# Altium schematic symbol library pporyzala-TI_Lighting.SchLib: 745 symbols (part 44 of 48)
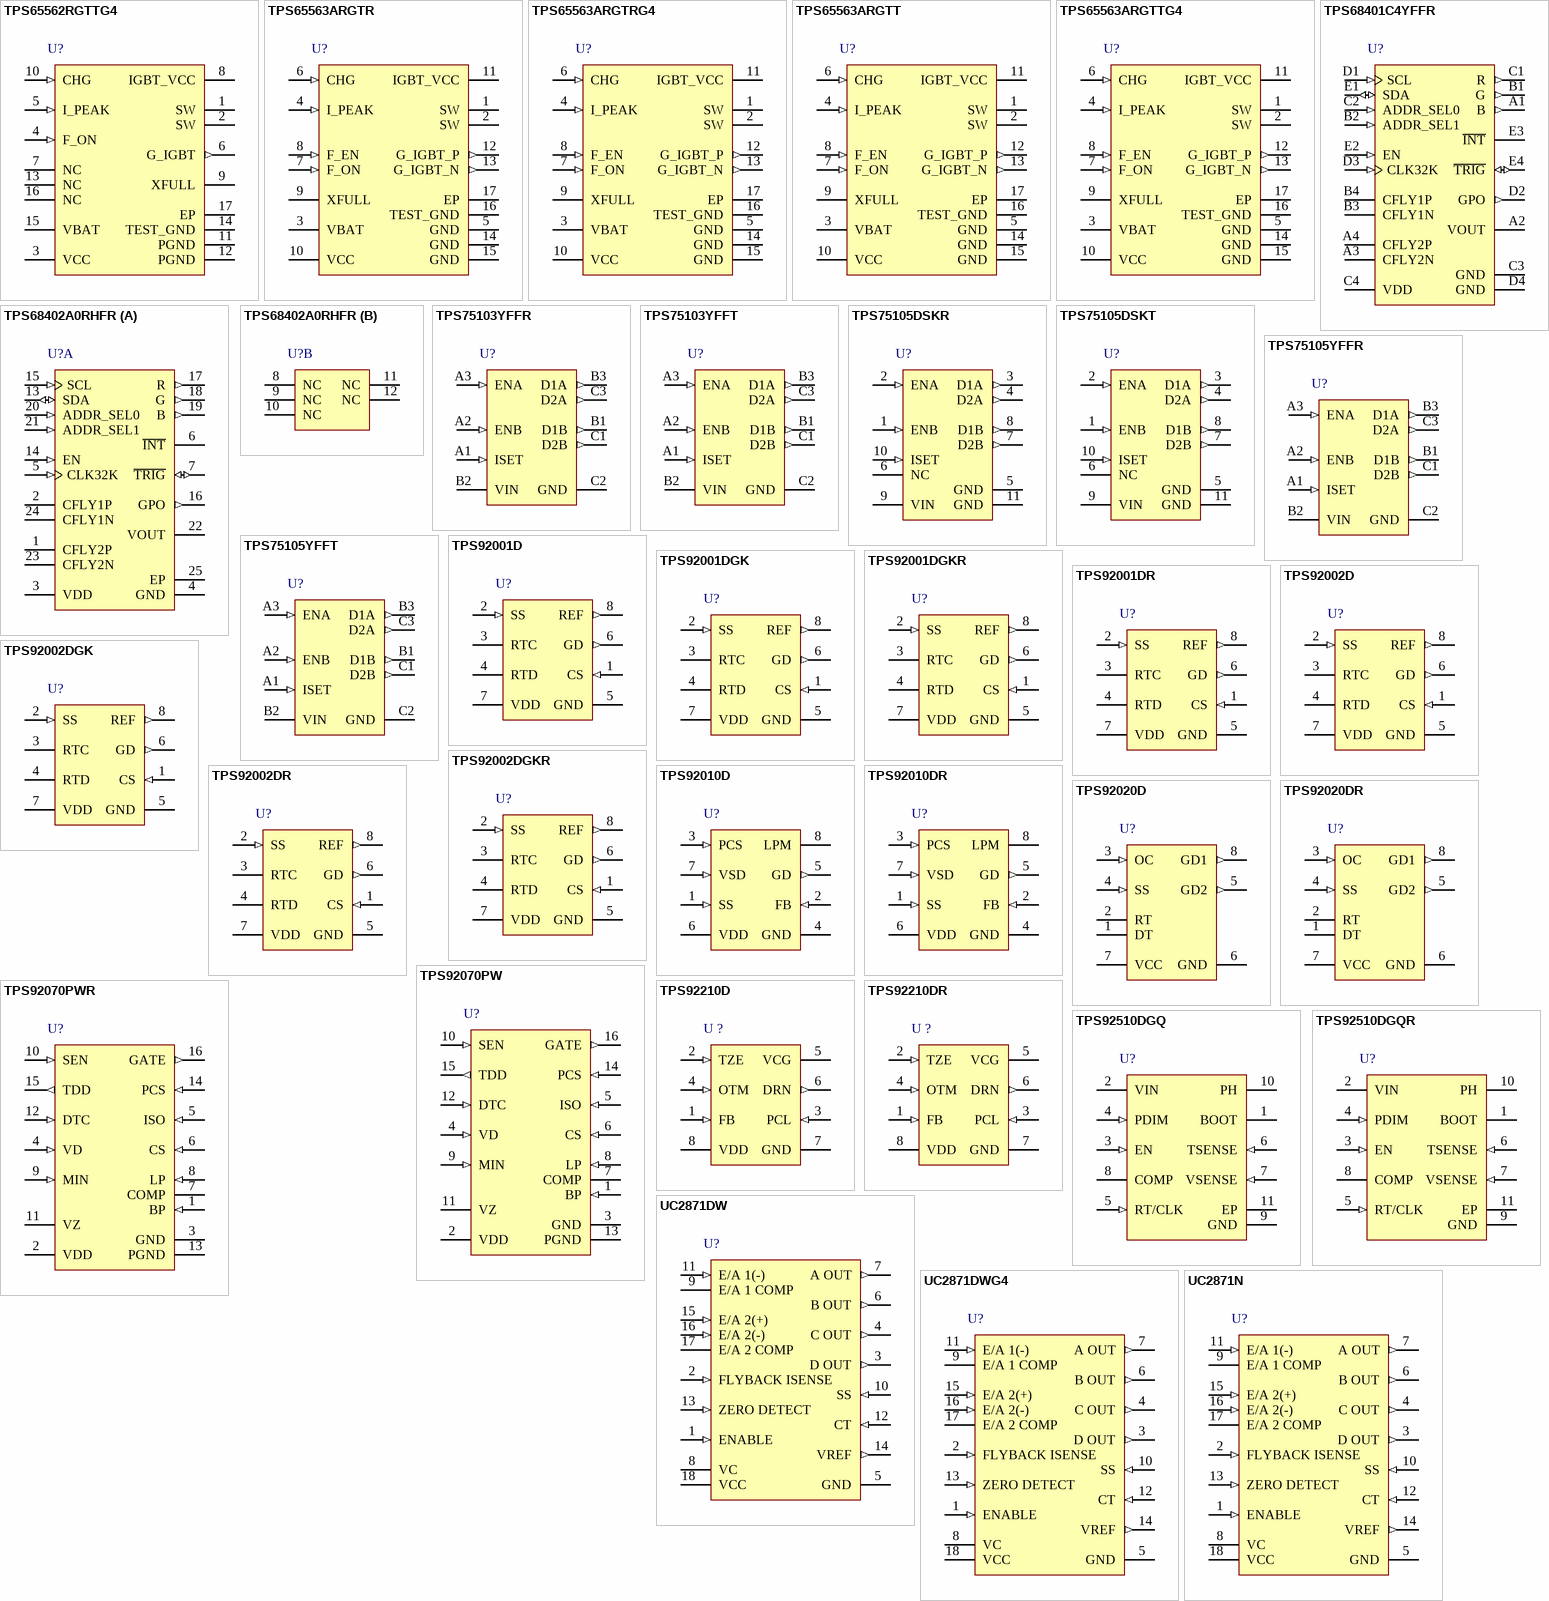
[diagram p74: symbols TPS65562RGTTG4 to UC2871N]

## TPS92002D
designator U?
General Purpose PWM Controller with 15V Turn-on Threshold for LED Lighting, -40 to 85 degC, 8-pin SOIC (D8), Green (RoHS & no Sb/Br); Manufacturer: Texas Instruments; PartNumber: TPS92002D; Frequency(Max)(kHz): 1000; Rating: Catalog; SubFamily: LED Driver, Lighting and Display Solutions, White LED Driver; Topology: Flyback; DatasheetVersion: SLUSA24A; PackageVersion: 4040047-3/M; PackageReference: D8; PackageDescription: 8-Pin Plastic Small Outline, Body 4.9 x 3.9 mm, Pitch 1.27 mm; Supplier 1: Digi-Key; Supplier Part Number 1: TPS92002D-ND; Supplier 2: Newark; Supplier Part Number 2: 72R6686; Supplier 3: Mouser; Supplier Part Number 3: 595-TPS92002D; Eco-Plan: Green (RoHS & no Sb/Br); Mounting Technology: Surface Mount; Code_JEDEC: MS-012; ComponentLink1Description: Manufacturer URL; ComponentLink1URL: http://www.ti.com/; ComponentLink2Description: Datasheet; ComponentLink2URL: http://www.ti.com/general/docs/lit/getliterature.tsp?genericPartNumber=TPS92002&fileType=pdf; ComponentLink3Description: Package Specification; ComponentLink3URL: http://www.ti.com/litv/pdf/msoi002j
footprint TI-D8_N (SOIC, 8-Leads, Body 4.9x3.9mm, Pitch 1.27mm, IPC Medium Density)
footprint TI-D8_L (SOIC, 8-Leads, Body 4.9x3.9mm, Pitch 1.27mm, IPC High Density)
footprint TI-D8_M (SOIC, 8-Leads, Body 4.9x3.9mm, Pitch 1.27mm, IPC Low Density)
pins: 1 CS (in) "This pin is the summing node for current sense feedback, voltage sense feedback (by optocoupler) and slope compensation. Slope compensation is derived from the rising voltage at the timing capacitor and can be buffered with (See Datasheet)", 2 SS (in) "This pin serves two functions. The soft start timing capacitor connects to SS and is charged by an internal 6-uA current source. Under normal soft-start, the SS pin is discharged to at least 0.4 V and then ramps positive to (See Datasheet)", 3 RTC "This pin connects to timing resistor RRTC , and controls the positive ramp (rise) time of the internal oscillator. The positive threshold of the internal oscillator is sensed through inactive timing resistor RRTD which (See Datasheet)", 4 RTD "This pin connects to timing resistor RTD and controls the negative ramp (fall) time of the internal oscillator. The negative threshold of the internal oscillator is sensed through inactive timing resistor RRTC which connects (See Datasheet)", 5 GND (power) "Reference ground and power ground for all functions.", 6 GD (out) "This pin is the high current power driver output. A minimum series gate resistor of 3.9 ohm is recommended to limit the gate drive current when operating with high-bias voltages.", 7 VDD (power) "The power input connection for this device. This pin is shunt regulated at 17.5V which is sufficiently below the voltage rating of the DMOS output driver stage. VDD should be bypassed with a 1-uF ceramic capacitor.", 8 REF (out) "The internal 5-V reference output. This reference is buffered and is available on the REF pin. The REF pin should be bypassed with a 0.47-uF ceramic capacitor to GND."

## TPS92002DGK
designator U?
General Purpose PWM Controller with 15V Turn-on Threshold for LED Lighting, -40 to 85 degC, 8-pin SOP (DGK8), Green (RoHS & no Sb/Br); Manufacturer: Texas Instruments; PartNumber: TPS92002DGK; Frequency(Max)(kHz): 1000; Rating: Catalog; SubFamily: LED Driver, Lighting and Display Solutions, White LED Driver; Topology: Flyback; DatasheetVersion: SLUSA24A; PackageVersion: 4073329/E; PackageReference: DGK8; PackageDescription: 8-Pin Thin Small Outline Package 3 x 3 mm Body ,0.65 mm Pitch; Supplier 1: Digi-Key; Supplier Part Number 1: TPS92002DGK-ND; Supplier 2: Newark; Supplier Part Number 2: 72R6687; Supplier 3: Mouser; Supplier Part Number 3: 595-TPS92002DGK; Eco-Plan: Green (RoHS & no Sb/Br); Mounting Technology: Surface Mount; Code_JEDEC: MO-187; ComponentLink1Description: Manufacturer URL; ComponentLink1URL: http://www.ti.com/; ComponentLink2Description: Datasheet; ComponentLink2URL: http://www.ti.com/general/docs/lit/getliterature.tsp?genericPartNumber=TPS92002&fileType=pdf; ComponentLink3Description: Package Specification; ComponentLink3URL: http://www.ti.com/litv/pdf/mpds028d
footprint TI-DGK8_N (SOP, 8-Leads, Body 3x3mm, Pitch 0.65mm, IPC Medium Density)
footprint TI-DGK8_L (SOP, 8-Leads, Body 3x3mm, Pitch 0.65mm, IPC High Density)
footprint TI-DGK8_M (SOP, 8-Leads, Body 3x3mm, Pitch 0.65mm, IPC Low Density)
pins: 1 CS (in) "This pin is the summing node for current sense feedback, voltage sense feedback (by optocoupler) and slope compensation. Slope compensation is derived from the rising voltage at the timing capacitor and can be buffered CS 1 (See Datasheet)", 2 SS (in) "This pin serves two functions. The soft start timing capacitor connects to SS and is charged by an internal 6-uA current source. Under normal soft-start, the SS pin is discharged to at least 0.4 V and then ramps positive to (See Datasheet)", 3 RTC "This pin connects to timing resistor RRTC , and controls the positive ramp (rise) time of the internal oscillator. The positive threshold of the internal oscillator is sensed through inactive timing resistor RRTD which (See Datasheet)", 4 RTD "This pin connects to timing resistor RTD and controls the negative ramp (fall) time of the internal oscillator . The negative threshold of the internal oscillator is sensed through inactive timing resistor RRTC which (See Datasheet)", 5 GND (power) "Reference ground and power ground for all functions.", 6 GD (out) "This pin is the high current power driver output. A minimum series gate resistor of 3.9 ohm is recommended to limit the gate drive current when operating with high-bias voltages.", 7 VDD (power) "The power input connection for this device. This pin is shunt regulated at 17.5 V which is sufficiently below the voltage rating of the DMOS output driver stage. VDD should be bypassed with a 1-uF ceramic capacitor.", 8 REF (out) "The internal 5-V reference output. This reference is buffered and is available on the REF pin. The REF pin should be bypassed with a 0.47-uF ceramic capacitor to GND."

## TPS92002DGKR
designator U?
General Purpose PWM Controller with 15V Turn-on Threshold for LED Lighting, -40 to 85 degC, 8-pin SOP (DGK8), Green (RoHS & no Sb/Br); Manufacturer: Texas Instruments; PartNumber: TPS92002DGKR; Frequency(Max)(kHz): 1000; Rating: Catalog; SubFamily: LED Driver, Lighting and Display Solutions, White LED Driver; Topology: Flyback; DatasheetVersion: SLUSA24A; PackageVersion: 4073329/E; PackageReference: DGK8; PackageDescription: 8-Pin Thin Small Outline Package 3 x 3 mm Body ,0.65 mm Pitch; Supplier 1: Digi-Key; Supplier Part Number 1: 296-27181-2-ND; Supplier 2: Digi-Key; Supplier Part Number 2: 296-27181-1-ND; Supplier 3: Digi-Key; Supplier Part Number 3: 296-27181-6-ND; Supplier 4: Newark; Supplier Part Number 4: 72R6688; Supplier 5: Mouser; Supplier Part Number 5: 595-TPS92002DGKR; Eco-Plan: Green (RoHS & no Sb/Br); Mounting Technology: Surface Mount; Code_JEDEC: MO-187; ComponentLink1Description: Manufacturer URL; ComponentLink1URL: http://www.ti.com/; ComponentLink2Description: Datasheet; ComponentLink2URL: http://www.ti.com/general/docs/lit/getliterature.tsp?genericPartNumber=TPS92002&fileType=pdf; ComponentLink3Description: Package Specification; ComponentLink3URL: http://www.ti.com/litv/pdf/mpds028d
footprint TI-DGK8_N (SOP, 8-Leads, Body 3x3mm, Pitch 0.65mm, IPC Medium Density)
footprint TI-DGK8_L (SOP, 8-Leads, Body 3x3mm, Pitch 0.65mm, IPC High Density)
footprint TI-DGK8_M (SOP, 8-Leads, Body 3x3mm, Pitch 0.65mm, IPC Low Density)
pins: 1 CS (in) "This pin is the summing node for current sense feedback, voltage sense feedback (by optocoupler) and slope compensation. Slope compensation is derived from the rising voltage at the timing capacitor and can be buffered CS 1 (See Datasheet)", 2 SS (in) "This pin serves two functions. The soft start timing capacitor connects to SS and is charged by an internal 6-uA current source. Under normal soft-start, the SS pin is discharged to at least 0.4 V and then ramps positive to (See Datasheet)", 3 RTC "This pin connects to timing resistor RRTC , and controls the positive ramp (rise) time of the internal oscillator. The positive threshold of the internal oscillator is sensed through inactive timing resistor RRTD which (See Datasheet)", 4 RTD "This pin connects to timing resistor RTD and controls the negative ramp (fall) time of the internal oscillator . The negative threshold of the internal oscillator is sensed through inactive timing resistor RRTC which (See Datasheet)", 5 GND (power) "Reference ground and power ground for all functions.", 6 GD (out) "This pin is the high current power driver output. A minimum series gate resistor of 3.9 ohm is recommended to limit the gate drive current when operating with high-bias voltages.", 7 VDD (power) "The power input connection for this device. This pin is shunt regulated at 17.5 V which is sufficiently below the voltage rating of the DMOS output driver stage. VDD should be bypassed with a 1-uF ceramic capacitor.", 8 REF (out) "The internal 5-V reference output. This reference is buffered and is available on the REF pin. The REF pin should be bypassed with a 0.47-uF ceramic capacitor to GND."

## TPS92002DR
designator U?
General Purpose PWM Controller with 15V Turn-on Threshold for LED Lighting, -40 to 85 degC, 8-pin SOIC (D8), Green (RoHS & no Sb/Br); Manufacturer: Texas Instruments; PartNumber: TPS92002DR; Frequency(Max)(kHz): 1000; Rating: Catalog; SubFamily: LED Driver, Lighting and Display Solutions, White LED Driver; Topology: Flyback; DatasheetVersion: SLUSA24A; PackageVersion: 4040047-3/M; PackageReference: D8; PackageDescription: 8-Pin Plastic Small Outline, Body 4.9 x 3.9 mm, Pitch 1.27 mm; Supplier 1: Digi-Key; Supplier Part Number 1: 296-27182-2-ND; Supplier 2: Digi-Key; Supplier Part Number 2: 296-27182-1-ND; Supplier 3: Digi-Key; Supplier Part Number 3: 296-27182-6-ND; Supplier 4: Mouser; Supplier Part Number 4: 595-TPS92002DR; Eco-Plan: Green (RoHS & no Sb/Br); Mounting Technology: Surface Mount; Code_JEDEC: MS-012; ComponentLink1Description: Manufacturer URL; ComponentLink1URL: http://www.ti.com/; ComponentLink2Description: Datasheet; ComponentLink2URL: http://www.ti.com/general/docs/lit/getliterature.tsp?genericPartNumber=TPS92002&fileType=pdf; ComponentLink3Description: Package Specification; ComponentLink3URL: http://www.ti.com/litv/pdf/msoi002j
footprint TI-D8_N (SOIC, 8-Leads, Body 4.9x3.9mm, Pitch 1.27mm, IPC Medium Density)
footprint TI-D8_L (SOIC, 8-Leads, Body 4.9x3.9mm, Pitch 1.27mm, IPC High Density)
footprint TI-D8_M (SOIC, 8-Leads, Body 4.9x3.9mm, Pitch 1.27mm, IPC Low Density)
pins: 1 CS (in) "This pin is the summing node for current sense feedback, voltage sense feedback (by optocoupler) and slope compensation. Slope compensation is derived from the rising voltage at the timing capacitor and can be buffered with (See Datasheet)", 2 SS (in) "This pin serves two functions. The soft start timing capacitor connects to SS and is charged by an internal 6-uA current source. Under normal soft-start, the SS pin is discharged to at least 0.4 V and then ramps positive to (See Datasheet)", 3 RTC "This pin connects to timing resistor RRTC , and controls the positive ramp (rise) time of the internal oscillator. The positive threshold of the internal oscillator is sensed through inactive timing resistor RRTD which (See Datasheet)", 4 RTD "This pin connects to timing resistor RTD and controls the negative ramp (fall) time of the internal oscillator. The negative threshold of the internal oscillator is sensed through inactive timing resistor RRTC which connects (See Datasheet)", 5 GND (power) "Reference ground and power ground for all functions.", 6 GD (out) "This pin is the high current power driver output. A minimum series gate resistor of 3.9 ohm is recommended to limit the gate drive current when operating with high-bias voltages.", 7 VDD (power) "The power input connection for this device. This pin is shunt regulated at 17.5V which is sufficiently below the voltage rating of the DMOS output driver stage. VDD should be bypassed with a 1-uF ceramic capacitor.", 8 REF (out) "The internal 5-V reference output. This reference is buffered and is available on the REF pin. The REF pin should be bypassed with a 0.47-uF ceramic capacitor to GND."

## TPS92010D
designator U?
Quasi-Resonant Driver Controller for LED Lighting, -40 to 105 degC, 8-pin SOIC (D8), Green (RoHS & no Sb/Br); Manufacturer: Texas Instruments; PartNumber: TPS92010D; Frequency(Max)(kHz): 143; Rating: Catalog; SubFamily: LED Driver, Lighting and Display Solutions, White LED Driver; Topology: Flyback; DatasheetVersion: SLUSA14; PackageVersion: 4040047-3/M; PackageReference: D8; PackageDescription: 8-Pin Plastic Small Outline, Body 4.9 x 3.9 mm, Pitch 1.27 mm; Supplier 1: Digi-Key; Supplier Part Number 1: TPS92010D-ND; Supplier 2: Farnell; Supplier Part Number 2: 1815782; Supplier 3: Newark; Supplier Part Number 3: 69R0456; Supplier 4: Mouser; Supplier Part Number 4: 595-TPS92010D; Eco-Plan: Green (RoHS & no Sb/Br); Mounting Technology: Surface Mount; Code_JEDEC: MS-012; ComponentLink1Description: Manufacturer URL; ComponentLink1URL: http://www.ti.com/; ComponentLink2Description: Datasheet; ComponentLink2URL: http://www.ti.com/general/docs/lit/getliterature.tsp?genericPartNumber=TPS92010&fileType=pdf; ComponentLink3Description: Package Specification; ComponentLink3URL: http://www.ti.com/litv/pdf/msoi002j
footprint TI-D8_N (SOIC, 8-Leads, Body 4.9x3.9mm, Pitch 1.27mm, IPC Medium Density)
footprint TI-D8_L (SOIC, 8-Leads, Body 4.9x3.9mm, Pitch 1.27mm, IPC High Density)
footprint TI-D8_M (SOIC, 8-Leads, Body 4.9x3.9mm, Pitch 1.27mm, IPC Low Density)
pins: 1 SS (in) "Soft-start programming pin. Program the soft-start rate with a capacitor to ground; the rate is determined by the capacitance and the internal soft-start charge current. Placement of the soft-start capacitor is critical and (See Datasheet)", 2 FB (in) "Feedback input or control input from the output sensing network to the PWM comparator used to control the peak current in the power MOSFET. An internal 20 k ohm resistor is between this pin and the internal 5-V regulated (See Datasheet)", 3 PCS (in) "Peak current sense input, also programs power limit and is used to control modulation and activate overcurrent  protection. The PCS voltage input originates across a current sense resistor and ground. Power limit is (See Datasheet)", 4 GND (power) "Ground for internal circuitry. Connect a ceramic 0.1-uF bypass capacitor between VDD and GND, with the capacitor as close to these two pins as possible.", 5 GD (out) "1-A sink (TrueDrive ) and 0.75-A source gate drive output. This output drives the power MOSFET and switches GD between GND and the lower of VDD or the 13-V internal output clamp.", 6 VDD (power) "Provides power to the device. Use a ceramic 0.1-uF by-pass capacitor for high-frequency filtering of the VDD pin,as described in the GND pin description. Operating energy is usually delivered from auxiliary winding. To (See Datasheet)", 7 VSD (in) "The valley switching detect (VSD) pin senses line, load and resonant conditions using the primary bias winding.", 8 LPM (hiz) "The low power mode pin is an ACTIVE HIGH open drain signal that indicates the device has entered low power mode. LPM pin is high during UVLO, (VDD < startup threshold), and softstart, (SS < FB)."

## TPS92010DR
designator U?
Quasi-Resonant Driver Controller for LED Lighting, -40 to 105 degC, 8-pin SOIC (D8), Green (RoHS & no Sb/Br); Manufacturer: Texas Instruments; PartNumber: TPS92010DR; Frequency(Max)(kHz): 143; Rating: Catalog; SubFamily: LED Driver, Lighting and Display Solutions, White LED Driver; Topology: Flyback; DatasheetVersion: SLUSA14; PackageVersion: 4040047-3/M; PackageReference: D8; PackageDescription: 8-Pin Plastic Small Outline, Body 4.9 x 3.9 mm, Pitch 1.27 mm; Supplier 1: Digi-Key; Supplier Part Number 1: 296-25781-2-ND; Supplier 2: Digi-Key; Supplier Part Number 2: 296-25781-1-ND; Supplier 3: Digi-Key; Supplier Part Number 3: 296-25781-6-ND; Supplier 4: Newark; Supplier Part Number 4: 69R0457; Supplier 5: Mouser; Supplier Part Number 5: 595-TPS92010DR; Eco-Plan: Green (RoHS & no Sb/Br); Mounting Technology: Surface Mount; Code_JEDEC: MS-012; ComponentLink1Description: Manufacturer URL; ComponentLink1URL: http://www.ti.com/; ComponentLink2Description: Datasheet; ComponentLink2URL: http://www.ti.com/general/docs/lit/getliterature.tsp?genericPartNumber=TPS92010&fileType=pdf; ComponentLink3Description: Package Specification; ComponentLink3URL: http://www.ti.com/litv/pdf/msoi002j
footprint TI-D8_N (SOIC, 8-Leads, Body 4.9x3.9mm, Pitch 1.27mm, IPC Medium Density)
footprint TI-D8_L (SOIC, 8-Leads, Body 4.9x3.9mm, Pitch 1.27mm, IPC High Density)
footprint TI-D8_M (SOIC, 8-Leads, Body 4.9x3.9mm, Pitch 1.27mm, IPC Low Density)
pins: 1 SS (in) "Soft-start programming pin. Program the soft-start rate with a capacitor to ground; the rate is determined by the capacitance and the internal soft-start charge current. Placement of the soft-start capacitor is critical and (See Datasheet)", 2 FB (in) "Feedback input or control input from the output sensing network to the PWM comparator used to control the peak current in the power MOSFET. An internal 20 k ohm resistor is between this pin and the internal 5-V regulated (See Datasheet)", 3 PCS (in) "Peak current sense input, also programs power limit and is used to control modulation and activate overcurrent  protection. The PCS voltage input originates across a current sense resistor and ground. Power limit is (See Datasheet)", 4 GND (power) "Ground for internal circuitry. Connect a ceramic 0.1-uF bypass capacitor between VDD and GND, with the capacitor as close to these two pins as possible.", 5 GD (out) "1-A sink (TrueDrive ) and 0.75-A source gate drive output. This output drives the power MOSFET and switches GD between GND and the lower of VDD or the 13-V internal output clamp.", 6 VDD (power) "Provides power to the device. Use a ceramic 0.1-uF by-pass capacitor for high-frequency filtering of the VDD pin,as described in the GND pin description. Operating energy is usually delivered from auxiliary winding. To (See Datasheet)", 7 VSD (in) "The valley switching detect (VSD) pin senses line, load and resonant conditions using the primary bias winding.", 8 LPM (hiz) "The low power mode pin is an ACTIVE HIGH open drain signal that indicates the device has entered low power mode. LPM pin is high during UVLO, (VDD < startup threshold), and softstart, (SS < FB)."

## TPS92020D
designator U?
Resonant-Switching Driver Controller for LED Lighting, -40 to 125 degC, 8-pin SOIC (D8), Green (RoHS & no Sb/Br); Manufacturer: Texas Instruments; PartNumber: TPS92020D; SubFamily: Lighting and Display Solutions; DatasheetVersion: SLUSA54; PackageVersion: 4040047-3/M; PackageReference: D8; PackageDescription: 8-Pin Plastic Small Outline, Body 4.9 x 3.9 mm, Pitch 1.27 mm; Supplier 1: Digi-Key; Supplier Part Number 1: 296-34658-5-ND; Supplier 2: Farnell; Supplier Part Number 2: 1855135; Supplier 3: Newark; Supplier Part Number 3: 99R2200; Supplier 4: Mouser; Supplier Part Number 4: 595-TPS92020D; Eco-Plan: Green (RoHS & no Sb/Br); Mounting Technology: Surface Mount; Code_JEDEC: MS-012; ComponentLink1Description: Manufacturer URL; ComponentLink1URL: http://www.ti.com/; ComponentLink2Description: Datasheet; ComponentLink2URL: http://www.ti.com/general/docs/lit/getliterature.tsp?genericPartNumber=TPS92020&fileType=pdf; ComponentLink3Description: Package Specification; ComponentLink3URL: http://www.ti.com/litv/pdf/msoi002j
footprint TI-D8_N (SOIC, 8-Leads, Body 4.9x3.9mm, Pitch 1.27mm, IPC Medium Density)
footprint TI-D8_L (SOIC, 8-Leads, Body 4.9x3.9mm, Pitch 1.27mm, IPC High Density)
footprint TI-D8_M (SOIC, 8-Leads, Body 4.9x3.9mm, Pitch 1.27mm, IPC Low Density)
pins: 1 DT "Sets the dead time of high-side and low-side switch driving signals. Connect a resistor to ground. With internal 2.25-V voltage reference, the current flowing through the resistor sets the dead time. To prevent shoot through (See Datasheet)", 2 RT "The current flowing out of this pin sets the frequency of the gate driver signals. Connect the opto-coupler collector to this pin to control the switching frequency for regulation purpose. Parallel a resistor to ground to (See Datasheet)", 3 OC (in) "Overcurrent protection. When the voltage on this pin is above 1 V, gate driver signals are actively pulled low.After the voltage falls below 0.6 V, the gate driver signal recovers with soft start. When OC pin voltage is (See Datasheet)", 4 SS (in) "Soft-start. This pin sets the soft-start time of the system. Connect a capacitor to ground. Pulling this pin below 1 V disables the device to allow easy ON/OFF control. The soft-start function is enabled after all fault (See Datasheet)", 5 GD2 (out) "High-side and low-side switch gate driver. Connect gate driver transformer primary side to these two pins to drive the half bridge.", 6 GND (power) "Ground.", 7 VCC (power) "Bias supply. Connect this pin to a power supply less than 20 V. Place a 1uF capacitor in parallel to ground to filter out noise.", 8 GD1 (out) "High-side and low-side switch gate driver. Connect gate driver transformer primary side to these two pins to drive the half bridge."

## TPS92020DR
designator U?
Resonant-Switching Driver Controller for LED Lighting, -40 to 125 degC, 8-pin SOIC (D8), Green (RoHS & no Sb/Br); Manufacturer: Texas Instruments; PartNumber: TPS92020DR; SubFamily: Lighting and Display Solutions; DatasheetVersion: SLUSA54; PackageVersion: 4040047-3/M; PackageReference: D8; PackageDescription: 8-Pin Plastic Small Outline, Body 4.9 x 3.9 mm, Pitch 1.27 mm; Supplier 1: Digi-Key; Supplier Part Number 1: 296-27846-2-ND; Supplier 2: Digi-Key; Supplier Part Number 2: 296-27846-1-ND; Supplier 3: Digi-Key; Supplier Part Number 3: 296-27846-6-ND; Supplier 4: Mouser; Supplier Part Number 4: 595-TPS92020DR; Eco-Plan: Green (RoHS & no Sb/Br); Mounting Technology: Surface Mount; Code_JEDEC: MS-012; ComponentLink1Description: Manufacturer URL; ComponentLink1URL: http://www.ti.com/; ComponentLink2Description: Datasheet; ComponentLink2URL: http://www.ti.com/general/docs/lit/getliterature.tsp?genericPartNumber=TPS92020&fileType=pdf; ComponentLink3Description: Package Specification; ComponentLink3URL: http://www.ti.com/litv/pdf/msoi002j
footprint TI-D8_N (SOIC, 8-Leads, Body 4.9x3.9mm, Pitch 1.27mm, IPC Medium Density)
footprint TI-D8_L (SOIC, 8-Leads, Body 4.9x3.9mm, Pitch 1.27mm, IPC High Density)
footprint TI-D8_M (SOIC, 8-Leads, Body 4.9x3.9mm, Pitch 1.27mm, IPC Low Density)
pins: 1 DT "Sets the dead time of high-side and low-side switch driving signals. Connect a resistor to ground. With internal 2.25-V voltage reference, the current flowing through the resistor sets the dead time. To prevent shoot through (See Datasheet)", 2 RT "The current flowing out of this pin sets the frequency of the gate driver signals. Connect the opto-coupler collector to this pin to control the switching frequency for regulation purpose. Parallel a resistor to ground to (See Datasheet)", 3 OC (in) "Overcurrent protection. When the voltage on this pin is above 1 V, gate driver signals are actively pulled low.After the voltage falls below 0.6 V, the gate driver signal recovers with soft start. When OC pin voltage is (See Datasheet)", 4 SS (in) "Soft-start. This pin sets the soft-start time of the system. Connect a capacitor to ground. Pulling this pin below 1 V disables the device to allow easy ON/OFF control. The soft-start function is enabled after all fault (See Datasheet)", 5 GD2 (out) "High-side and low-side switch gate driver. Connect gate driver transformer primary side to these two pins to drive the half bridge.", 6 GND (power) "Ground.", 7 VCC (power) "Bias supply. Connect this pin to a power supply less than 20 V. Place a 1uF capacitor in parallel to ground to filter out noise.", 8 GD1 (out) "High-side and low-side switch gate driver. Connect gate driver transformer primary side to these two pins to drive the half bridge."

## TPS92070PW
designator U?
Dimmable Quasi-Resonant LED Lighting Controller, 9 to 21.5 V, -40 to 140 degC, 16-pin SOP (PW16), Green (RoHS & no Sb/Br); Manufacturer: Texas Instruments; PartNumber: TPS92070PW; Dimming: TRUE; Rating: Catalog; SubFamily: White LED Driver; Topology: Flyback; Vin(Max)(V): 21.5; Vin(Min)(V): 9; DatasheetVersion: SLUSAN1; PackageVersion: 4040064-4/G; PackageReference: PW16; PackageDescription: 16-Pin Plastic Small Outline, Body 4.40 x 5.00 mm, Pitch 0.65 mm; Supplier 1: Digi-Key; Supplier Part Number 1: 296-34659-5-ND; Supplier 2: Farnell; Supplier Part Number 2: 2061814; Supplier 3: Newark; Supplier Part Number 3: 64T4269; Supplier 4: Mouser; Supplier Part Number 4: 595-TPS92070PW; Eco-Plan: Green (RoHS & no Sb/Br); Mounting Technology: Surface Mount; Code_JEDEC: MO-153; ComponentLink1Description: Manufacturer URL; ComponentLink1URL: http://www.ti.com/; ComponentLink2Description: Datasheet; ComponentLink2URL: http://www.ti.com/general/docs/lit/getliterature.tsp?genericPartNumber=TPS92070&fileType=pdf; ComponentLink3Description: Package Specification; ComponentLink3URL: http://www.ti.com/lit/ml/mpds361/mpds361.pdf
footprint TI-PW16_N (SOP, 16-Leads, Body 5x4.4mm, Pitch 0.65mm, IPC Medium Density)
footprint TI-PW16_L (SOP, 16-Leads, Body 5x4.4mm, Pitch 0.65mm, IPC High Density)
footprint TI-PW16_M (SOP, 16-Leads, Body 5x4.4mm, Pitch 0.65mm, IPC Low Density)
pins: 1 BP (in) "Connect a 1-uF ceramic capacitor to GND to bypass the internal voltage regulator.", 2 VDD (power) "Provides power to the device. Connect a bypass capacitor directly to GND.", 3 GND (power) "Ground for internal circuitry", 4 VD (in) "Valley detect input. Connect to the Aux winding through a resistor divider.", 5 ISO (in) "Inverting input of secondary side current sense comparator and isolation transformer buffer. Connect to GND for non-isolated applications.", 6 CS (in) "LED current sense feedback and positive input terminal of the error amplifier.", 7 COMP "Loop compensation output. Connect the loop compensation components between this pin and GND", 8 LP (in) "Pole for DTC low pass filter. Connect a capacitor to GND to set the response time of the dimming level detection circuit.", 9 MIN (in) "Minimum current programming input. Connect a resistor to GND to set the minimum LED current.", 10 SEN (in) "Dimmer sense input. An internal window comparator continuously monitors this pin to determine the dimmer setting.", 11 VZ (power) "Voltage clamp. This pin clamps the maximum voltage on the gate of the external HV DTC N-channel MOSFET.", 12 DTC (in) "Dimmer trigger control input. Connect this pin to thesource of the HV N-channel MOSFET cascode device of the DTC circuit.", 13 PGND (power) "Power ground for GATE Driver. Connected to GND", 14 PCS (in) "Primary current sense input. Connected to shunt resistor for primary side current sense.", 15 TDD (out) "TRIAC dimmer detect. Drives bypass FET in Valley Fill PFC when dimmer is detected. For non PFC applications, leave this pin open", 16 GATE (out) "PWM drive signal output. Connect to flyback power MOSFET."

## TPS92070PWR
designator U?
Dimmable Quasi-Resonant LED Lighting Controller, 9 to 21.5 V, -40 to 140 degC, 16-pin SOP (PW16), Green (RoHS & no Sb/Br); Manufacturer: Texas Instruments; PartNumber: TPS92070PWR; Dimming: TRUE; Rating: Catalog; SubFamily: White LED Driver; Topology: Flyback; Vin(Max)(V): 21.5; Vin(Min)(V): 9; DatasheetVersion: SLUSAN1; PackageVersion: 4040064-4/G; PackageReference: PW16; PackageDescription: 16-Pin Plastic Small Outline, Body 4.40 x 5.00 mm, Pitch 0.65 mm; Supplier 1: Digi-Key; Supplier Part Number 1: 296-29546-2-ND; Supplier 2: Digi-Key; Supplier Part Number 2: 296-29546-1-ND; Supplier 3: Digi-Key; Supplier Part Number 3: 296-29546-6-ND; Supplier 4: Newark; Supplier Part Number 4: 64T4270; Supplier 5: Mouser; Supplier Part Number 5: 595-TPS92070PWR; Eco-Plan: Green (RoHS & no Sb/Br); Mounting Technology: Surface Mount; Code_JEDEC: MO-153; ComponentLink1Description: Manufacturer URL; ComponentLink1URL: http://www.ti.com/; ComponentLink2Description: Datasheet; ComponentLink2URL: http://www.ti.com/general/docs/lit/getliterature.tsp?genericPartNumber=TPS92070&fileType=pdf; ComponentLink3Description: Package Specification; ComponentLink3URL: http://www.ti.com/lit/ml/mpds361/mpds361.pdf
footprint TI-PW16_N (SOP, 16-Leads, Body 5x4.4mm, Pitch 0.65mm, IPC Medium Density)
footprint TI-PW16_L (SOP, 16-Leads, Body 5x4.4mm, Pitch 0.65mm, IPC High Density)
footprint TI-PW16_M (SOP, 16-Leads, Body 5x4.4mm, Pitch 0.65mm, IPC Low Density)
pins: 1 BP (in) "Connect a 1-uF ceramic capacitor to GND to bypass the internal voltage regulator.", 2 VDD (power) "Provides power to the device. Connect a bypass capacitor directly to GND.", 3 GND (power) "Ground for internal circuitry", 4 VD (in) "Valley detect input. Connect to the Aux winding through a resistor divider.", 5 ISO (in) "Inverting input of secondary side current sense comparator and isolation transformer buffer. Connect to GND for non-isolated applications.", 6 CS (in) "LED current sense feedback and positive input terminal of the error amplifier.", 7 COMP "Loop compensation output. Connect the loop compensation components between this pin and GND", 8 LP (in) "Pole for DTC low pass filter. Connect a capacitor to GND to set the response time of the dimming level detection circuit.", 9 MIN (in) "Minimum current programming input. Connect a resistor to GND to set the minimum LED current.", 10 SEN (in) "Dimmer sense input. An internal window comparator continuously monitors this pin to determine the dimmer setting.", 11 VZ (power) "Voltage clamp. This pin clamps the maximum voltage on the gate of the external HV DTC N-channel MOSFET.", 12 DTC (in) "Dimmer trigger control input. Connect this pin to thesource of the HV N-channel MOSFET cascode device of the DTC circuit.", 13 PGND (power) "Power ground for GATE Driver. Connected to GND", 14 PCS (in) "Primary current sense input. Connected to shunt resistor for primary side current sense.", 15 TDD (out) "TRIAC dimmer detect. Drives bypass FET in Valley Fill PFC when dimmer is detected. For non PFC applications, leave this pin open", 16 GATE (out) "PWM drive signal output. Connect to flyback power MOSFET."

## TPS92210D
designator U ?
Constant-On Time Driver Controller with Cascoded MOSFET for LED Lighting, 9 to 20 V, -40 to 125 degC, 8-pin SOIC (D8), Green (RoHS & no Sb/Br); Manufacturer: Texas Instruments; PartNumber: TPS92210D; Frequency(Max)(kHz): 130; Rating: Catalog; SubFamily: LED Driver, Lighting and Display Solutions, White LED Driver; Topology: Flyback; DatasheetVersion: SLUS989A; PackageVersion: 4040047-3/M; PackageReference: D8; PackageDescription: 8-Pin Plastic Small Outline, Body 4.9 x 3.9 mm, Pitch 1.27 mm; Supplier 1: Digi-Key; Supplier Part Number 1: 296-34660-5-ND; Supplier 2: Farnell; Supplier Part Number 2: 1864822; Supplier 3: Newark; Supplier Part Number 3: 69R0458; Supplier 4: Mouser; Supplier Part Number 4: 595-TPS92210D; Eco-Plan: Green (RoHS & no Sb/Br); Mounting Technology: Surface Mount; Code_JEDEC: MS-012; ComponentLink1Description: Manufacturer URL; ComponentLink1URL: http://www.ti.com/; ComponentLink2Description: Datasheet; ComponentLink2URL: http://www.ti.com/general/docs/lit/getliterature.tsp?genericPartNumber=TPS92210&fileType=pdf; ComponentLink3Description: Package Specification; ComponentLink3URL: http://www.ti.com/litv/pdf/msoi002j
footprint TI-D8_N (SOIC, 8-Leads, Body 4.9x3.9mm, Pitch 1.27mm, IPC Medium Density)
footprint TI-D8_L (SOIC, 8-Leads, Body 4.9x3.9mm, Pitch 1.27mm, IPC High Density)
footprint TI-D8_M (SOIC, 8-Leads, Body 4.9x3.9mm, Pitch 1.27mm, IPC Low Density)
pins: 1 FB (in) "The FB pin is regulated at 0.7 V and only detects current input (FB current,IFB) which commands the operating mode of TPS92210. For peak-current mode control, this pin is connected to the emitter of the feedback opto coupler.(See Datasheet)", 2 TZE (in) "A resistive divider between the primary-side auxiliary winding and this pin is used to detect when the transformer is demagnetized resulting in transformer zero energy. The ratio of the resistive divider at this pin can also (See Datasheet)", 3 PCL (in) "The PCL pin programs the peak primary inductor current that is reached each switching cycle. The primary current is sensed with the RDS(on) of the internal MOSFET and is programmed by setting a threshold by connecting a low (See Datasheet)", 4 OTM (in) "the OTM pin is internally regulated at 3 V and used to program the on-time of the cascode (flyback) switch by connecting a resistor (ROTM) from this pin to the quiet return of GND. The collector of the opto-coupler is (See Datasheet)", 5 VCG "The VCG pin provides the bias voltage for the gate of the cascode MOSFET. Place a 0.1-µF ceramic capacitorbetween VCG and GND, as close as possible to the high-voltage MOSFET. This pin also provides start-up biasthrough a (See Datasheet)", 6 DRN (out) "The DRN pin is the drain of the internal low voltage power MOSFET of the TPS92210 and carries the peak primary inductor current, IPEAK(pri). Connect this pin to the source of the external cascode power MOSFET. A schottky (See Datasheet)", 7 GND (power) "This GND pin is the current return terminal for both the analog and power signals in the TPS92210. This terminal carries the full drain current, IDRN, which is equal to the peak primary current, IPEAK(pri), in addition to (See Datasheet)", 8 VDD (power) "VDD is the bias supply pin for the TPS92210. It can be derived from an external source, or an auxiliary winding.Place a 0.1-μF ceramic capacitor between VDD and GND, as close to the device as possible. This pin also enables (See Datasheet)"

## TPS92210DR
designator U ?
Constant-On Time Driver Controller with Cascoded MOSFET for LED Lighting, 9 to 20 V, -40 to 125 degC, 8-pin SOIC (D8), Green (RoHS & no Sb/Br); Manufacturer: Texas Instruments; PartNumber: TPS92210DR; Frequency(Max)(kHz): 130; Rating: Catalog; SubFamily: LED Driver, Lighting and Display Solutions, White LED Driver; Topology: Flyback; DatasheetVersion: SLUS989A; PackageVersion: 4040047-3/M; PackageReference: D8; PackageDescription: 8-Pin Plastic Small Outline, Body 4.9 x 3.9 mm, Pitch 1.27 mm; Supplier 1: Digi-Key; Supplier Part Number 1: 296-25782-2-ND; Supplier 2: Digi-Key; Supplier Part Number 2: 296-25782-1-ND; Supplier 3: Digi-Key; Supplier Part Number 3: 296-25782-6-ND; Supplier 4: Newark; Supplier Part Number 4: 69R0459; Supplier 5: Mouser; Supplier Part Number 5: 595-TPS92210DR; Eco-Plan: Green (RoHS & no Sb/Br); Mounting Technology: Surface Mount; Code_JEDEC: MS-012; ComponentLink1Description: Manufacturer URL; ComponentLink1URL: http://www.ti.com/; ComponentLink2Description: Datasheet; ComponentLink2URL: http://www.ti.com/general/docs/lit/getliterature.tsp?genericPartNumber=TPS92210&fileType=pdf; ComponentLink3Description: Package Specification; ComponentLink3URL: http://www.ti.com/litv/pdf/msoi002j
footprint TI-D8_N (SOIC, 8-Leads, Body 4.9x3.9mm, Pitch 1.27mm, IPC Medium Density)
footprint TI-D8_L (SOIC, 8-Leads, Body 4.9x3.9mm, Pitch 1.27mm, IPC High Density)
footprint TI-D8_M (SOIC, 8-Leads, Body 4.9x3.9mm, Pitch 1.27mm, IPC Low Density)
pins: 1 FB (in) "The FB pin is regulated at 0.7 V and only detects current input (FB current,IFB) which commands the operating mode of TPS92210. For peak-current mode control, this pin is connected to the emitter of the feedback opto coupler.(See Datasheet)", 2 TZE (in) "A resistive divider between the primary-side auxiliary winding and this pin is used to detect when the transformer is demagnetized resulting in transformer zero energy. The ratio of the resistive divider at this pin can also (See Datasheet)", 3 PCL (in) "The PCL pin programs the peak primary inductor current that is reached each switching cycle. The primary current is sensed with the RDS(on) of the internal MOSFET and is programmed by setting a threshold by connecting a low (See Datasheet)", 4 OTM (in) "the OTM pin is internally regulated at 3 V and used to program the on-time of the cascode (flyback) switch by connecting a resistor (ROTM) from this pin to the quiet return of GND. The collector of the opto-coupler is (See Datasheet)", 5 VCG "The VCG pin provides the bias voltage for the gate of the cascode MOSFET. Place a 0.1-µF ceramic capacitorbetween VCG and GND, as close as possible to the high-voltage MOSFET. This pin also provides start-up biasthrough a (See Datasheet)", 6 DRN (out) "The DRN pin is the drain of the internal low voltage power MOSFET of the TPS92210 and carries the peak primary inductor current, IPEAK(pri). Connect this pin to the source of the external cascode power MOSFET. A schottky (See Datasheet)", 7 GND (power) "This GND pin is the current return terminal for both the analog and power signals in the TPS92210. This terminal carries the full drain current, IDRN, which is equal to the peak primary current, IPEAK(pri), in addition to (See Datasheet)", 8 VDD (power) "VDD is the bias supply pin for the TPS92210. It can be derived from an external source, or an auxiliary winding.Place a 0.1-μF ceramic capacitor between VDD and GND, as close to the device as possible. This pin also enables (See Datasheet)"

## TPS92510DGQ
designator U?
1.5 A Constant Current Buck Converter for HB LEDs, 3.5 to 60 V, -40 to 150 degC, 10-pin SOP (DGQ10), Green (RoHS & no Sb/Br); Manufacturer: Texas Instruments; PartNumber: TPS92510DGQ; Iout(Max)(A): 1.5; Rating: Catalog; SubFamily: White LED Driver; Switching Frequency(Typ)(kHz): 581; Vin(Max)(V): 60; Vin(Min)(V): 3.5; DatasheetVersion: SLUSAE4A; PackageVersion: 4073273/F; PackageReference: DGQ10-1830X1600TP; PackageDescription: 10-Lead, Plastic Small Outline, Body Size 3 x 3 mm, Pitch 0.5 mm; Supplier 1: Digi-Key; Supplier Part Number 1: 296-35058-5-ND; Supplier 2: Newark; Supplier Part Number 2: 47W7953; Supplier 3: Mouser; Supplier Part Number 3: 595-TPS92510DGQ; Eco-Plan: Green (RoHS & no Sb/Br); Topology: Buck; Mounting Technology: Surface Mount; Code_JEDEC: MO-187; ComponentLink1Description: Manufacturer URL; ComponentLink1URL: http://www.ti.com/; ComponentLink2Description: Datasheet; ComponentLink2URL: http://www.ti.com/general/docs/lit/getliterature.tsp?genericPartNumber=TPS92510&fileType=pdf; ComponentLink3Description: Package Specification; ComponentLink3URL: http://www.ti.com/litv/pdf/mpds043e
footprint TI-DGQ10-1830X1600TP_N (SOP, 10-Leads, Body 3x3mm, Pitch 0.5mm, Thermal Pad 1.83x1.6mm, IPC Medium Density)
footprint TI-DGQ10-1830X1600TP_L (SOP, 10-Leads, Body 3x3mm, Pitch 0.5mm, Thermal Pad 1.83x1.6mm, IPC High Density)
footprint TI-DGQ10-1830X1600TP_M (SOP, 10-Leads, Body 3x3mm, Pitch 0.5mm, Thermal Pad 1.83x1.6mm, IPC Low Density)
pins: 1 BOOT "A bootstrap capacitor is required between BOOT and PH. If the voltage on this capacitor is below the minimum required by the output device, the output is forced to switch off until the capacitor is refreshed.", 2 VIN (power) "Input supply voltage, 3.5 V to 60 V.", 3 EN (in) "Enable pin, internal pull-up current source. Pull below 1.2-V to disable. Float to enable. Adjust the input undervoltage lockout with two resistors.", 4 PDIM (in) "PWM dimming input pin. The duty cycle of the PWM signal linearly controls the average current output of the converter.", 5 RT/CLK (in) "Resistor timing and external clock. An internal amplifier holds this pin at a fixed voltage when using an external resistor to ground to program the switching frequency. If the pin is pulled above the PLL upper RT/CLK 5 I (See Datasheet)", 6 TSENSE (in) "Temperature fold-back pin. An NTC thermistor connected from this pin to ground provides a thermal feedback to decrease the average LED current as the sensed LED temperature increases. It is recommended to bypass this pin (See Datasheet)", 7 VSENSE (in) "Inverting node of the transconductance (gM) error amplifier.", 8 COMP "Error amplifier output, and input to the output switch current comparator. Connect frequency compensation components to this pin.", 9 GND (power) "Ground", 10 PH (power) "The source of the internal high-side MOSFET.", 11 EP (power) "GND pin must be electrically connected to the exposed pad on the printed circuit board for proper operation."

## TPS92510DGQR
designator U?
1.5 A Constant Current Buck Converter for HB LEDs, 3.5 to 60 V, -40 to 150 degC, 10-pin SOP (DGQ10), Green (RoHS & no Sb/Br); Manufacturer: Texas Instruments; PartNumber: TPS92510DGQR; Iout(Max)(A): 1.5; Rating: Catalog; SubFamily: White LED Driver; Switching Frequency(Typ)(kHz): 581; Vin(Max)(V): 60; Vin(Min)(V): 3.5; DatasheetVersion: SLUSAE4A; PackageVersion: 4073273/F; PackageReference: DGQ10-1830X1600TP; PackageDescription: 10-Lead, Plastic Small Outline, Body Size 3 x 3 mm, Pitch 0.5 mm; Supplier 1: Digi-Key; Supplier Part Number 1: 296-35055-2-ND; Supplier 2: Digi-Key; Supplier Part Number 2: 296-35055-1-ND; Supplier 3: Digi-Key; Supplier Part Number 3: 296-35055-6-ND; Supplier 4: Newark; Supplier Part Number 4: 47W7954; Supplier 5: Mouser; Supplier Part Number 5: 595-TPS92510DGQR; Eco-Plan: Green (RoHS & no Sb/Br); Topology: Buck; Mounting Technology: Surface Mount; Code_JEDEC: MO-187; ComponentLink1Description: Manufacturer URL; ComponentLink1URL: http://www.ti.com/; ComponentLink2Description: Datasheet; ComponentLink2URL: http://www.ti.com/general/docs/lit/getliterature.tsp?genericPartNumber=TPS92510&fileType=pdf; ComponentLink3Description: Package Specification; ComponentLink3URL: http://www.ti.com/litv/pdf/mpds043e
footprint TI-DGQ10-1830X1600TP_N (SOP, 10-Leads, Body 3x3mm, Pitch 0.5mm, Thermal Pad 1.83x1.6mm, IPC Medium Density)
footprint TI-DGQ10-1830X1600TP_L (SOP, 10-Leads, Body 3x3mm, Pitch 0.5mm, Thermal Pad 1.83x1.6mm, IPC High Density)
footprint TI-DGQ10-1830X1600TP_M (SOP, 10-Leads, Body 3x3mm, Pitch 0.5mm, Thermal Pad 1.83x1.6mm, IPC Low Density)
pins: 1 BOOT "A bootstrap capacitor is required between BOOT and PH. If the voltage on this capacitor is below the minimum required by the output device, the output is forced to switch off until the capacitor is refreshed.", 2 VIN (power) "Input supply voltage, 3.5 V to 60 V.", 3 EN (in) "Enable pin, internal pull-up current source. Pull below 1.2-V to disable. Float to enable. Adjust the input undervoltage lockout with two resistors.", 4 PDIM (in) "PWM dimming input pin. The duty cycle of the PWM signal linearly controls the average current output of the converter.", 5 RT/CLK (in) "Resistor timing and external clock. An internal amplifier holds this pin at a fixed voltage when using an external resistor to ground to program the switching frequency. If the pin is pulled above the PLL upper RT/CLK 5 I (See Datasheet)", 6 TSENSE (in) "Temperature fold-back pin. An NTC thermistor connected from this pin to ground provides a thermal feedback to decrease the average LED current as the sensed LED temperature increases. It is recommended to bypass this pin (See Datasheet)", 7 VSENSE (in) "Inverting node of the transconductance (gM) error amplifier.", 8 COMP "Error amplifier output, and input to the output switch current comparator. Connect frequency compensation components to this pin.", 9 GND (power) "Ground", 10 PH (power) "The source of the internal high-side MOSFET.", 11 EP (power) "GND pin must be electrically connected to the exposed pad on the printed circuit board for proper operation."

## UC2871DW
designator U?
Resonant Fluorescent Lamp Driver, 4.5 to 20 V, -40 to 85 degC, 18-pin SOIC (DW18), Green (RoHS & no Sb/Br); Manufacturer: Texas Instruments; PartNumber: UC2871DW; Control Topology: Push-Pull; Frequency(Max)(kHz): 200; Open Lamp Detect: TRUE; Rating: Catalog; SubFamily: CCFL Backlight Converter; Vin(Max)(V): 20; Vin(Min)(V): 4.5; PackageVersion: 4040000-3/G; PackageReference: DW18; PackageDescription: 18-Pin Plastic Small Outline, Body 11.55 x 7.5 mm, Pitch 1.27 mm; Supplier 1: Digi-Key; Supplier Part Number 1: 296-34727-5-ND; Supplier 2: Newark; Supplier Part Number 2: 77C3054; Supplier 3: Mouser; Supplier Part Number 3: 595-UC2871DW; Eco-Plan: Green (RoHS & no Sb/Br); Mounting Technology: Surface Mount; Code_JEDEC: MS-013; ComponentLink1Description: Manufacturer URL; ComponentLink1URL: http://www.ti.com/; ComponentLink2Description: Datasheet; ComponentLink2URL: http://www.ti.com/general/docs/lit/getliterature.tsp?genericPartNumber=UC2871&fileType=pdf; ComponentLink3Description: Package Specification; ComponentLink3URL: http://www.ti.com/lit/ml/mpds172a/mpds172a.pdf
footprint TI-DW18_N (SOIC, 18-Leads, Body 11.55x7.5mm, Pitch 1.27mm, IPC Medium Density)
footprint TI-DW18_L (SOIC, 18-Leads, Body 11.55x7.5mm, Pitch 1.27mm, IPC High Density)
footprint TI-DW18_M (SOIC, 18-Leads, Body 11.55x7.5mm, Pitch 1.27mm, IPC Low Density)
pins: 1 ENABLE (in), 2 FLYBACK ISENSE (in), 3 D OUT (out), 4 C OUT (out), 5 GND (power), 6 B OUT (out), 7 A OUT (out), 8 VC (power), 9 E/A 1 COMP, 10 SS (in), 11 E/A 1(-) (in), 12 CT (in), 13 ZERO DETECT (in), 14 VREF (out), 15 E/A 2(+) (in), 16 E/A 2(-) (in), 17 E/A 2 COMP, 18 VCC (power)

## UC2871DWG4
designator U?
Resonant Fluorescent Lamp Driver, 4.5 to 20 V, -40 to 85 degC, 18-pin SOIC (DW18), Green (RoHS & no Sb/Br); Manufacturer: Texas Instruments; PartNumber: UC2871DWG4; Control Topology: Push-Pull; Frequency(Max)(kHz): 200; Open Lamp Detect: TRUE; Rating: Catalog; SubFamily: CCFL Backlight Converter; Vin(Max)(V): 20; Vin(Min)(V): 4.5; PackageVersion: 4040000-3/G; PackageReference: DW18; PackageDescription: 18-Pin Plastic Small Outline, Body 11.55 x 7.5 mm, Pitch 1.27 mm; Supplier 1: Digi-Key; Supplier Part Number 1: UC2871DWG4-ND; Supplier 2: Newark; Supplier Part Number 2: 66K4910; Supplier 3: Mouser; Supplier Part Number 3: 595-UC2871DWG4; Eco-Plan: Green (RoHS & no Sb/Br); Mounting Technology: Surface Mount; Code_JEDEC: MS-013; ComponentLink1Description: Manufacturer URL; ComponentLink1URL: http://www.ti.com/; ComponentLink2Description: Datasheet; ComponentLink2URL: http://www.ti.com/general/docs/lit/getliterature.tsp?genericPartNumber=UC2871&fileType=pdf; ComponentLink3Description: Package Specification; ComponentLink3URL: http://www.ti.com/lit/ml/mpds172a/mpds172a.pdf
footprint TI-DW18_N (SOIC, 18-Leads, Body 11.55x7.5mm, Pitch 1.27mm, IPC Medium Density)
footprint TI-DW18_L (SOIC, 18-Leads, Body 11.55x7.5mm, Pitch 1.27mm, IPC High Density)
footprint TI-DW18_M (SOIC, 18-Leads, Body 11.55x7.5mm, Pitch 1.27mm, IPC Low Density)
pins: 1 ENABLE (in), 2 FLYBACK ISENSE (in), 3 D OUT (out), 4 C OUT (out), 5 GND (power), 6 B OUT (out), 7 A OUT (out), 8 VC (power), 9 E/A 1 COMP, 10 SS (in), 11 E/A 1(-) (in), 12 CT (in), 13 ZERO DETECT (in), 14 VREF (out), 15 E/A 2(+) (in), 16 E/A 2(-) (in), 17 E/A 2 COMP, 18 VCC (power)

## UC2871N
designator U?
Resonant Fluorescent Lamp Driver, 4.5 to 20 V, -40 to 85 degC, 18-pin DIP (N18), Green (RoHS & no Sb/Br); Manufacturer: Texas Instruments; PartNumber: UC2871N; Control Topology: Push-Pull; Frequency(Max)(kHz): 200; Open Lamp Detect: TRUE; Rating: Catalog; SubFamily: CCFL Backlight Converter; Vin(Max)(V): 20; Vin(Min)(V): 4.5; PackageVersion: 4040049/E; PackageReference: N18; PackageDescription: 18-Pin Plastic In-Line, Body 22.48 x 6.35 mm, Pitch 2.54 mm; Supplier 1: Digi-Key; Supplier Part Number 1: UC2871N-ND; Supplier 2: Newark; Supplier Part Number 2: 77C3056; Supplier 3: Mouser; Supplier Part Number 3: 595-UC2871N; Eco-Plan: Green (RoHS & no Sb/Br); Mounting Technology: Through Hole; Code_JEDEC: MS-001; ComponentLink1Description: Manufacturer URL; ComponentLink1URL: http://www.ti.com/; ComponentLink2Description: Datasheet; ComponentLink2URL: http://www.ti.com/general/docs/lit/getliterature.tsp?genericPartNumber=UC2871&fileType=pdf; ComponentLink3Description: Package Specification; ComponentLink3URL: http://www.ti.com/lit/ml/mpdi002c/mpdi002c.pdf
footprint TI-N18 (DIP, 18-Leads, Body 22.48x6.35 mm, Pitch 2.54 mm)
pins: 1 ENABLE (in), 2 FLYBACK ISENSE (in), 3 D OUT (out), 4 C OUT (out), 5 GND (power), 6 B OUT (out), 7 A OUT (out), 8 VC (power), 9 E/A 1 COMP, 10 SS (in), 11 E/A 1(-) (in), 12 CT (in), 13 ZERO DETECT (in), 14 VREF (out), 15 E/A 2(+) (in), 16 E/A 2(-) (in), 17 E/A 2 COMP, 18 VCC (power)

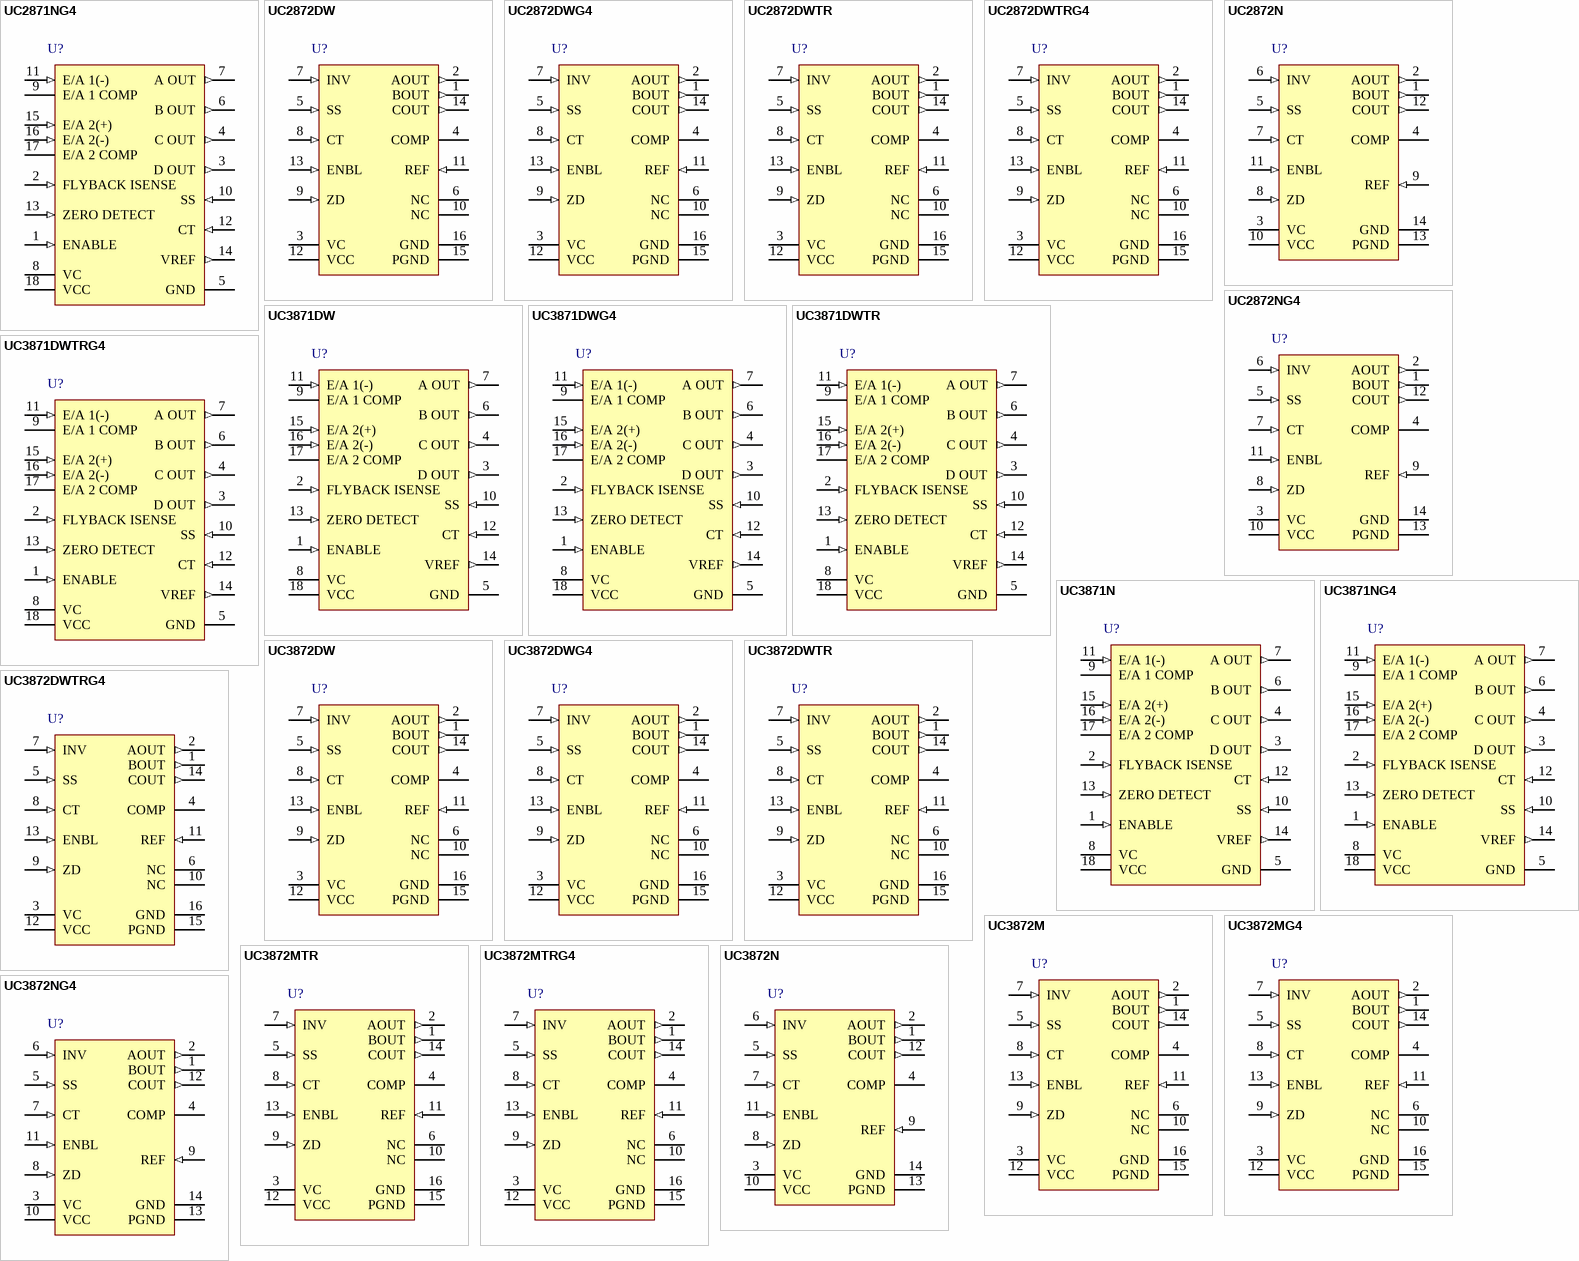
[diagram p29: symbols UC2871NG4 to UC3872NG4]

## UC2871NG4
designator U?
Resonant Fluorescent Lamp Driver, 4.5 to 20 V, -40 to 85 degC, 18-pin DIP (N18), Green (RoHS & no Sb/Br); Manufacturer: Texas Instruments; PartNumber: UC2871NG4; Control Topology: Push-Pull; Frequency(Max)(kHz): 200; Open Lamp Detect: TRUE; Rating: Catalog; SubFamily: CCFL Backlight Converter; Vin(Max)(V): 20; Vin(Min)(V): 4.5; PackageVersion: 4040049/E; PackageReference: N18; PackageDescription: 18-Pin Plastic In-Line, Body 22.48 x 6.35 mm, Pitch 2.54 mm; Supplier 1: Digi-Key; Supplier Part Number 1: UC2871NG4-ND; Supplier 2: Newark; Supplier Part Number 2: 54K2291; Supplier 3: Mouser; Supplier Part Number 3: 595-UC2871NG4; Eco-Plan: Green (RoHS & no Sb/Br); Mounting Technology: Through Hole; Code_JEDEC: MS-001; ComponentLink1Description: Manufacturer URL; ComponentLink1URL: http://www.ti.com/; ComponentLink2Description: Datasheet; ComponentLink2URL: http://www.ti.com/general/docs/lit/getliterature.tsp?genericPartNumber=UC2871&fileType=pdf; ComponentLink3Description: Package Specification; ComponentLink3URL: http://www.ti.com/lit/ml/mpdi002c/mpdi002c.pdf
footprint TI-N18 (DIP, 18-Leads, Body 22.48x6.35 mm, Pitch 2.54 mm)
pins: 1 ENABLE (in), 2 FLYBACK ISENSE (in), 3 D OUT (out), 4 C OUT (out), 5 GND (power), 6 B OUT (out), 7 A OUT (out), 8 VC (power), 9 E/A 1 COMP, 10 SS (in), 11 E/A 1(-) (in), 12 CT (in), 13 ZERO DETECT (in), 14 VREF (out), 15 E/A 2(+) (in), 16 E/A 2(-) (in), 17 E/A 2 COMP, 18 VCC (power)